# EAGLE library part L3G4200D (library X893)
http://www.st.com/internet/analog/product/250373.jsp
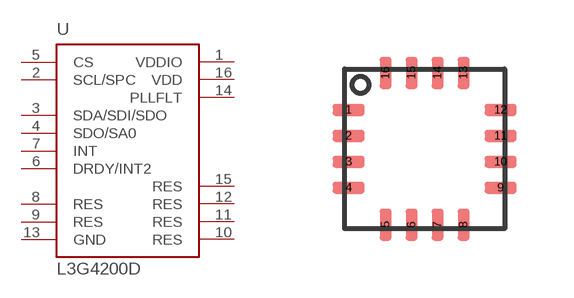
[diagram p107: symbol with the pads of LGA16-4X4; footprint LGA16-4X4]

Designator prefix U

## L3G4200D  [LGA16-4X4]
1  VDDIO  pas
2  SCL/SPC
3  SDA/SDI/SDO
4  SDO/SA0
5  CS  in
6  DRDY/INT2  out
7  INT  out
8  RES  pas
9  RES  pas
10  RES
11  RES  pas
12  RES  pas
13  GND  pas
14  PLLFLT  pas
15  RES  pas
16  VDD  pas

## Footprint LGA16-4X4 (pad centres in mm)
smd 0.8 x 0.3: 1 -1.9,0.975; 2 -1.9,0.325; 3 -1.9,-0.325; 4 -1.9,-0.975; 9 1.9,-0.975; 10 1.9,-0.325; 11 1.9,0.325; 12 1.9,0.975
smd 0.3 x 0.8: 5 -0.975,-1.9; 6 -0.325,-1.9; 7 0.325,-1.9; 8 0.975,-1.9; 13 0.975,1.9; 14 0.325,1.9; 15 -0.325,1.9; 16 -0.975,1.9